# Altium schematic symbol library st-protection.SchLib: 1 symbol
Pins are listed as number, name and electrical type; pins without a type are passive.

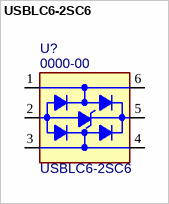
[diagram p0: symbol USBLC6-2SC6]

## USBLC6-2SC6
designator U?, comment 0000-00  value USBLC6-2SC6
USB ESD Protection; MF: STMicroelectronics; PN: 0000-00; Package: ST23-6L; ExtraInfo: *
footprint SOT23-6L (SOT23, 6-Leads, Body 3.0x3.0mm (max), Pitch 0.95mm, IPC Medium Density)
pins: 1 IO/1 (power), 2 GND (power), 3 IO/2 (power), 4 I/O2 (oc), 5 VBUS (power), 6 I/O1 (oc)